# Altium schematic symbol library WR-BHD.SchLib: 220 symbols (part 5 of 5)
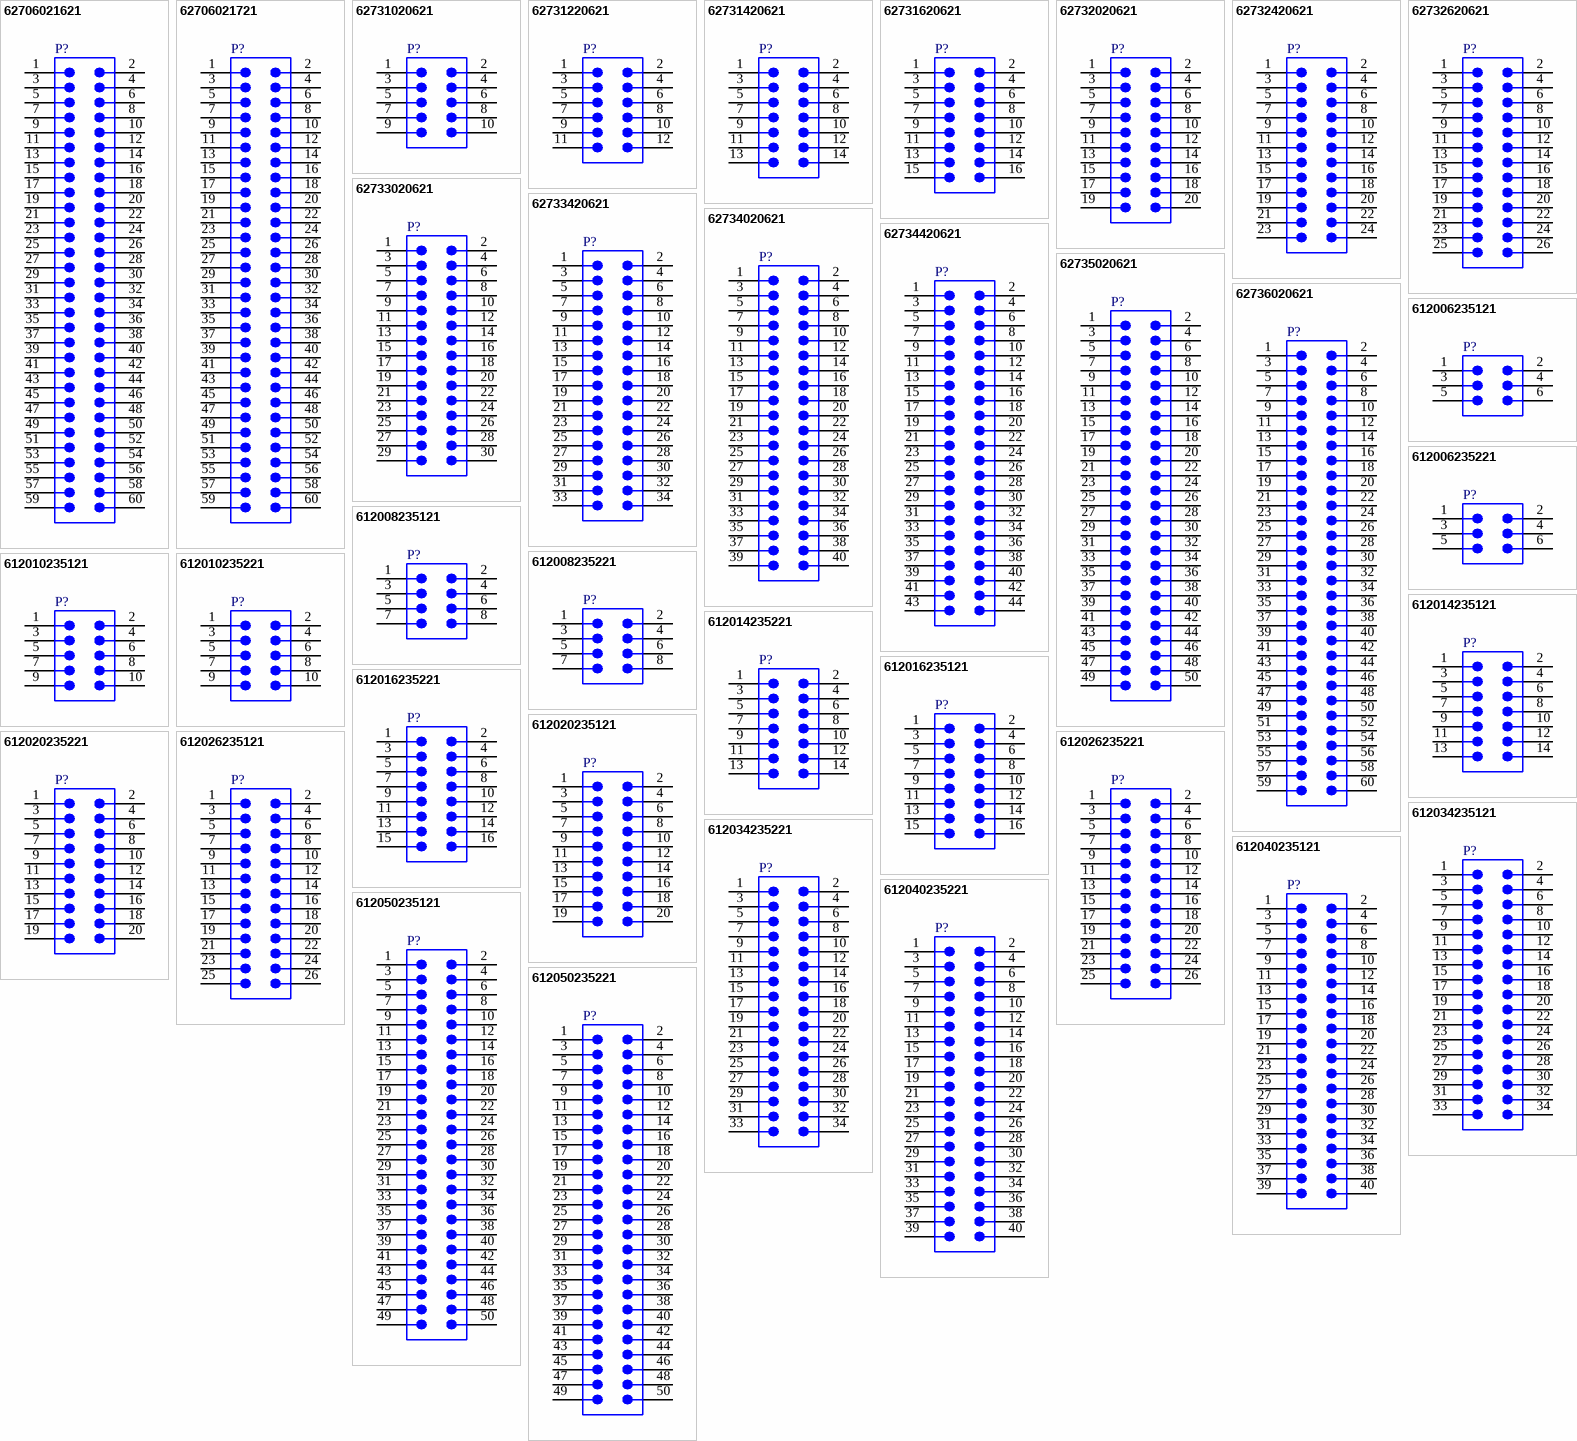
[diagram p9: symbols 62706021621 to 612050235221]

## 62734020621
designator P?  (value not drawn)
WR-BHD Male Box Header, SMT Straight, pitch 1.27 mm, 2 Rows, 40 Pins; Manufacturer: Wurth Elektronik; Contact Resistance: 20 mΩ; Insulation Resistance: 1000 MΩ; Pitch: 1.27 mm; Rated Current: 1 A; Working Voltage: 50 V; Withstanding Voltage: 500 V; Manufacturer Part Number: 62734020621; Category: Wire-to-Board Connector; Connectors.Match Code: WR-BHD; ComponentLink1Description: Website Link; ComponentLink1URL: https://www.we-online.com/redexpert/article/62734020621?ad; ComponentLink2Description: Datasheet Link; ComponentLink2URL: https://www.we-online.com/redexpert/spec/62734020621?ad; Mount: Surface Mount; Min Operating Temperature: -40 °C; Max Operating Temperature: 105 °C; Packaging: Tape and Reel; Length: 31.75 mm; Width: 5 mm; Height: 5.3 mm; Gender: Male; Number of Pins: 40; Number of Rows: 2; Orientation: Straight
footprint 62734020621
pins: 1, 2, 3, 4, 5, 6, 7, 8, 9, 10, 11, 12, 13, 14, 15, 16, 17, 18, 19, 20, 21, 22, 23, 24, 25, 26, 27, 28, 29, 30, 31, 32, 33, 34, 35, 36, 37, 38, 39, 40

## 62734420621
designator P?  (value not drawn)
WR-BHD Male Box Header, SMT Straight, pitch 1.27 mm, 2 Rows, 44 Pins; Manufacturer: Wurth Elektronik; Contact Resistance: 20 mΩ; Insulation Resistance: 1000 MΩ; Pitch: 1.27 mm; Rated Current: 1 A; Working Voltage: 50 V; Withstanding Voltage: 500 V; Manufacturer Part Number: 62734420621; Category: Wire-to-Board Connector; Connectors.Match Code: WR-BHD; ComponentLink1Description: Website Link; ComponentLink1URL: https://www.we-online.com/redexpert/article/62734420621?ad; ComponentLink2Description: Datasheet Link; ComponentLink2URL: https://www.we-online.com/redexpert/spec/62734420621?ad; Mount: Surface Mount; Min Operating Temperature: -40 °C; Max Operating Temperature: 105 °C; Packaging: Tape and Reel; Length: 34.29 mm; Width: 5 mm; Height: 5.3 mm; Gender: Male; Number of Pins: 44; Number of Rows: 2; Orientation: Straight
footprint 62734420621
pins: 1, 2, 3, 4, 5, 6, 7, 8, 9, 10, 11, 12, 13, 14, 15, 16, 17, 18, 19, 20, 21, 22, 23, 24, 25, 26, 27, 28, 29, 30, 31, 32, 33, 34, 35, 36, 37, 38, 39, 40, 41, 42, 43, 44

## 62735020621
designator P?  (value not drawn)
WR-BHD Male Box Header, SMT Straight, pitch 1.27 mm, 2 Rows, 50 Pins; Manufacturer: Wurth Elektronik; Contact Resistance: 20 mΩ; Insulation Resistance: 1000 MΩ; Pitch: 1.27 mm; Rated Current: 1 A; Working Voltage: 50 V; Withstanding Voltage: 500 V; Manufacturer Part Number: 62735020621; Category: Wire-to-Board Connector; Connectors.Match Code: WR-BHD; ComponentLink1Description: Website Link; ComponentLink1URL: https://www.we-online.com/redexpert/article/62735020621?ad; ComponentLink2Description: Datasheet Link; ComponentLink2URL: https://www.we-online.com/redexpert/spec/62735020621?ad; Mount: Surface Mount; Min Operating Temperature: -40 °C; Max Operating Temperature: 105 °C; Packaging: Tape and Reel; Length: 38.1 mm; Width: 5 mm; Height: 5.3 mm; Gender: Male; Number of Pins: 50; Number of Rows: 2; Orientation: Straight
footprint 62735020621
pins: 1, 2, 3, 4, 5, 6, 7, 8, 9, 10, 11, 12, 13, 14, 15, 16, 17, 18, 19, 20, 21, 22, 23, 24, 25, 26, 27, 28, 29, 30, 31, 32, 33, 34, 35, 36, 37, 38, 39, 40, 41, 42, 43, 44, 45, 46, 47, 48, 49, 50

## 62736020621
designator P?  (value not drawn)
WR-BHD Male Box Header, SMT Straight, pitch 1.27 mm, 2 Rows, 60 Pins; Manufacturer: Wurth Elektronik; Contact Resistance: 20 mΩ; Insulation Resistance: 1000 MΩ; Pitch: 1.27 mm; Rated Current: 1 A; Working Voltage: 50 V; Withstanding Voltage: 500 V; Manufacturer Part Number: 62736020621; Category: Wire-to-Board Connector; Connectors.Match Code: WR-BHD; ComponentLink1Description: Website Link; ComponentLink1URL: https://www.we-online.com/redexpert/article/62736020621?ad; ComponentLink2Description: Datasheet Link; ComponentLink2URL: https://www.we-online.com/redexpert/spec/62736020621?ad; Mount: Surface Mount; Min Operating Temperature: -40 °C; Max Operating Temperature: 105 °C; Packaging: Tape and Reel; Length: 44.45 mm; Width: 5 mm; Height: 5.3 mm; Gender: Male; Number of Pins: 60; Number of Rows: 2; Orientation: Straight
footprint 62736020621
pins: 1, 2, 3, 4, 5, 6, 7, 8, 9, 10, 11, 12, 13, 14, 15, 16, 17, 18, 19, 20, 21, 22, 23, 24, 25, 26, 27, 28, 29, 30, 31, 32, 33, 34, 35, 36, 37, 38, 39, 40, 41, 42, 43, 44, 45, 46, 47, 48, 49, 50, 51, 52, 53, 54, 55, 56, 57, 58, 59, 60

## 612006235121
designator P?  (value not drawn)
WR-BHD Male Box Header, THT Straight, pitch 2.54 mm, 2 Rows, 6 Pins; Manufacturer: Wurth Elektronik; Contact Resistance: 20 mΩ; Insulation Resistance: 1000 MΩ; Pitch: 2.54 mm; Rated Current: 3 A; Working Voltage: 250 V; Withstanding Voltage: 500 V; Manufacturer Part Number: 612006235121; Category: Wire-to-Board Connector; Connectors.Match Code: WR-BHD; ComponentLink1Description: Website Link; ComponentLink1URL: https://www.we-online.com/redexpert/article/612006235121?ad; ComponentLink2Description: Datasheet Link; ComponentLink2URL: https://www.we-online.com/redexpert/spec/612006235121?ad; Mount: Through Hole; Min Operating Temperature: -40 °C; Max Operating Temperature: 125 °C; Packaging: Tray; Length: 15.2 mm; Width: 9.05 mm; Height: 9.05 mm; Gender: Male; Number of Pins: 6; Number of Rows: 2; Orientation: Straight
footprint 612006235121
pins: 1, 2, 3, 4, 5, 6

## 612006235221
designator P?  (value not drawn)
WR-BHD Male Box Header, THT Right Angle, pitch 2.54 mm, 2 Rows, 6 Pins; Manufacturer: Wurth Elektronik; Contact Resistance: 20 mΩ; Insulation Resistance: 1000 MΩ; Pitch: 2.54 mm; Rated Current: 3 A; Working Voltage: 250 V; Withstanding Voltage: 500 V; Manufacturer Part Number: 612006235221; Category: Wire-to-Board Connector; Connectors.Match Code: WR-BHD; ComponentLink1Description: Website Link; ComponentLink1URL: https://www.we-online.com/redexpert/article/612006235221?ad; ComponentLink2Description: Datasheet Link; ComponentLink2URL: https://www.we-online.com/redexpert/spec/612006235221?ad; Mount: Through Hole; Min Operating Temperature: -40 °C; Max Operating Temperature: 125 °C; Packaging: Tray; Length: 15.2 mm; Width: 13.19 mm; Height: 9.05 mm; Gender: Male; Number of Pins: 6; Number of Rows: 2; Orientation: Right Angle
footprint 612006235221
pins: 1, 2, 3, 4, 5, 6

## 612008235121
designator P?  (value not drawn)
WR-BHD Male Box Header, THT Straight, pitch 2.54 mm, 2 Rows, 8 Pins; Manufacturer: Wurth Elektronik; Contact Resistance: 20 mΩ; Insulation Resistance: 1000 MΩ; Pitch: 2.54 mm; Rated Current: 3 A; Working Voltage: 250 V; Withstanding Voltage: 500 V; Manufacturer Part Number: 612008235121; Category: Wire-to-Board Connector; Connectors.Match Code: WR-BHD; ComponentLink1Description: Website Link; ComponentLink1URL: https://www.we-online.com/redexpert/article/612008235121?ad; ComponentLink2Description: Datasheet Link; ComponentLink2URL: https://www.we-online.com/redexpert/spec/612008235121?ad; Mount: Through Hole; Min Operating Temperature: -40 °C; Max Operating Temperature: 125 °C; Packaging: Tray; Length: 17.78 mm; Width: 9.05 mm; Height: 9.05 mm; Gender: Male; Number of Pins: 8; Number of Rows: 2; Orientation: Straight
footprint 612008235121
pins: 1, 2, 3, 4, 5, 6, 7, 8

## 612008235221
designator P?  (value not drawn)
WR-BHD Male Box Header, THT Right Angle, pitch 2.54 mm, 2 Rows, 8 Pins; Manufacturer: Wurth Elektronik; Contact Resistance: 20 mΩ; Insulation Resistance: 1000 MΩ; Pitch: 2.54 mm; Rated Current: 3 A; Working Voltage: 250 V; Withstanding Voltage: 500 V; Manufacturer Part Number: 612008235221; Category: Wire-to-Board Connector; Connectors.Match Code: WR-BHD; ComponentLink1Description: Website Link; ComponentLink1URL: https://www.we-online.com/redexpert/article/612008235221?ad; ComponentLink2Description: Datasheet Link; ComponentLink2URL: https://www.we-online.com/redexpert/spec/612008235221?ad; Mount: Through Hole; Min Operating Temperature: -40 °C; Max Operating Temperature: 125 °C; Packaging: Tray; Length: 17.78 mm; Width: 13.19 mm; Height: 9.05 mm; Gender: Male; Number of Pins: 8; Number of Rows: 2; Orientation: Right Angle
footprint 612008235221
pins: 1, 2, 3, 4, 5, 6, 7, 8

## 612010235121
designator P?  (value not drawn)
WR-BHD Male Box Header, THT Straight, pitch 2.54 mm, 2 Rows, 10 Pins; Manufacturer: Wurth Elektronik; Contact Resistance: 20 mΩ; Insulation Resistance: 1000 MΩ; Pitch: 2.54 mm; Rated Current: 3 A; Working Voltage: 250 V; Withstanding Voltage: 500 V; Manufacturer Part Number: 612010235121; Category: Wire-to-Board Connector; Connectors.Match Code: WR-BHD; ComponentLink1Description: Website Link; ComponentLink1URL: https://www.we-online.com/redexpert/article/612010235121?ad; ComponentLink2Description: Datasheet Link; ComponentLink2URL: https://www.we-online.com/redexpert/spec/612010235121?ad; Mount: Through Hole; Min Operating Temperature: -40 °C; Max Operating Temperature: 125 °C; Packaging: Tray; Length: 20.3 mm; Width: 9.05 mm; Height: 9.05 mm; Gender: Male; Number of Pins: 10; Number of Rows: 2; Orientation: Straight
footprint 612010235121
pins: 1, 2, 3, 4, 5, 6, 7, 8, 9, 10

## 612010235221
designator P?  (value not drawn)
WR-BHD Male Box Header, THT Right Angle, pitch 2.54 mm, 2 Rows, 10 Pins; Manufacturer: Wurth Elektronik; Contact Resistance: 20 mΩ; Insulation Resistance: 1000 MΩ; Pitch: 2.54 mm; Rated Current: 3 A; Working Voltage: 250 V; Withstanding Voltage: 500 V; Manufacturer Part Number: 612010235221; Category: Wire-to-Board Connector; Connectors.Match Code: WR-BHD; ComponentLink1Description: Website Link; ComponentLink1URL: https://www.we-online.com/redexpert/article/612010235221?ad; ComponentLink2Description: Datasheet Link; ComponentLink2URL: https://www.we-online.com/redexpert/spec/612010235221?ad; Mount: Through Hole; Min Operating Temperature: -40 °C; Max Operating Temperature: 125 °C; Packaging: Tray; Length: 20.3 mm; Width: 13.19 mm; Height: 9.05 mm; Gender: Male; Number of Pins: 10; Number of Rows: 2; Orientation: Right Angle
footprint 612010235221
pins: 1, 2, 3, 4, 5, 6, 7, 8, 9, 10

## 612014235121
designator P?  (value not drawn)
WR-BHD Male Box Header, THT Straight, pitch 2.54 mm, 2 Rows, 14 Pins; Manufacturer: Wurth Elektronik; Contact Resistance: 20 mΩ; Insulation Resistance: 1000 MΩ; Pitch: 2.54 mm; Rated Current: 3 A; Working Voltage: 250 V; Withstanding Voltage: 500 V; Manufacturer Part Number: 612014235121; Category: Wire-to-Board Connector; Connectors.Match Code: WR-BHD; ComponentLink1Description: Website Link; ComponentLink1URL: https://www.we-online.com/redexpert/article/612014235121?ad; ComponentLink2Description: Datasheet Link; ComponentLink2URL: https://www.we-online.com/redexpert/spec/612014235121?ad; Mount: Through Hole; Min Operating Temperature: -40 °C; Max Operating Temperature: 125 °C; Packaging: Tray; Length: 25.38 mm; Width: 9.05 mm; Height: 9.05 mm; Gender: Male; Number of Pins: 14; Number of Rows: 2; Orientation: Straight
footprint 612014235121
pins: 1, 2, 3, 4, 5, 6, 7, 8, 9, 10, 11, 12, 13, 14

## 612014235221
designator P?  (value not drawn)
WR-BHD Male Box Header, THT Right Angle, pitch 2.54 mm, 2 Rows, 14 Pins; Manufacturer: Wurth Elektronik; Contact Resistance: 20 mΩ; Insulation Resistance: 1000 MΩ; Pitch: 2.54 mm; Rated Current: 3 A; Working Voltage: 250 V; Withstanding Voltage: 500 V; Manufacturer Part Number: 612014235221; Category: Wire-to-Board Connector; Connectors.Match Code: WR-BHD; ComponentLink1Description: Website Link; ComponentLink1URL: https://www.we-online.com/redexpert/article/612014235221?ad; ComponentLink2Description: Datasheet Link; ComponentLink2URL: https://www.we-online.com/redexpert/spec/612014235221?ad; Mount: Through Hole; Min Operating Temperature: -40 °C; Max Operating Temperature: 125 °C; Packaging: Tray; Length: 25.38 mm; Width: 13.19 mm; Height: 9.05 mm; Gender: Male; Number of Pins: 14; Number of Rows: 2; Orientation: Right Angle
footprint 612014235221
pins: 1, 2, 3, 4, 5, 6, 7, 8, 9, 10, 11, 12, 13, 14

## 612016235121
designator P?  (value not drawn)
WR-BHD Male Box Header, THT Straight, pitch 2.54 mm, 2 Rows, 16 Pins; Manufacturer: Wurth Elektronik; Contact Resistance: 20 mΩ; Insulation Resistance: 1000 MΩ; Pitch: 2.54 mm; Rated Current: 3 A; Working Voltage: 250 V; Withstanding Voltage: 500 V; Manufacturer Part Number: 612016235121; Category: Wire-to-Board Connector; Connectors.Match Code: WR-BHD; ComponentLink1Description: Website Link; ComponentLink1URL: https://www.we-online.com/redexpert/article/612016235121?ad; ComponentLink2Description: Datasheet Link; ComponentLink2URL: https://www.we-online.com/redexpert/spec/612016235121?ad; Mount: Through Hole; Min Operating Temperature: -40 °C; Max Operating Temperature: 125 °C; Packaging: Tray; Length: 27.92 mm; Width: 9.05 mm; Height: 9.05 mm; Gender: Male; Number of Pins: 16; Number of Rows: 2; Orientation: Straight
footprint 612016235121
pins: 1, 2, 3, 4, 5, 6, 7, 8, 9, 10, 11, 12, 13, 14, 15, 16

## 612016235221
designator P?  (value not drawn)
WR-BHD Male Box Header, THT Right Angle, pitch 2.54 mm, 2 Rows, 16 Pins; Manufacturer: Wurth Elektronik; Contact Resistance: 20 mΩ; Insulation Resistance: 1000 MΩ; Pitch: 2.54 mm; Rated Current: 3 A; Working Voltage: 250 V; Withstanding Voltage: 500 V; Manufacturer Part Number: 612016235221; Category: Wire-to-Board Connector; Connectors.Match Code: WR-BHD; ComponentLink1Description: Website Link; ComponentLink1URL: https://www.we-online.com/redexpert/article/612016235221?ad; ComponentLink2Description: Datasheet Link; ComponentLink2URL: https://www.we-online.com/redexpert/spec/612016235221?ad; Mount: Through Hole; Min Operating Temperature: -40 °C; Max Operating Temperature: 125 °C; Packaging: Tray; Length: 27.92 mm; Width: 13.19 mm; Height: 9.05 mm; Gender: Male; Number of Pins: 16; Number of Rows: 2; Orientation: Right Angle
footprint 612016235221
pins: 1, 2, 3, 4, 5, 6, 7, 8, 9, 10, 11, 12, 13, 14, 15, 16

## 612020235121
designator P?  (value not drawn)
WR-BHD Male Box Header, THT Straight, pitch 2.54 mm, 2 Rows, 20 Pins; Manufacturer: Wurth Elektronik; Contact Resistance: 20 mΩ; Insulation Resistance: 1000 MΩ; Pitch: 2.54 mm; Rated Current: 3 A; Working Voltage: 250 V; Withstanding Voltage: 500 V; Manufacturer Part Number: 612020235121; Category: Wire-to-Board Connector; Connectors.Match Code: WR-BHD; ComponentLink1Description: Website Link; ComponentLink1URL: https://www.we-online.com/redexpert/article/612020235121?ad; ComponentLink2Description: Datasheet Link; ComponentLink2URL: https://www.we-online.com/redexpert/spec/612020235121?ad; Mount: Through Hole; Min Operating Temperature: -40 °C; Max Operating Temperature: 125 °C; Packaging: Tray; Length: 33 mm; Width: 9.05 mm; Height: 9.05 mm; Gender: Male; Number of Pins: 20; Number of Rows: 2; Orientation: Straight
footprint 612020235121
pins: 1, 2, 3, 4, 5, 6, 7, 8, 9, 10, 11, 12, 13, 14, 15, 16, 17, 18, 19, 20

## 612020235221
designator P?  (value not drawn)
WR-BHD Male Box Header, THT Right Angle, pitch 2.54 mm, 2 Rows, 20 Pins; Manufacturer: Wurth Elektronik; Contact Resistance: 20 mΩ; Insulation Resistance: 1000 MΩ; Pitch: 2.54 mm; Rated Current: 3 A; Working Voltage: 250 V; Withstanding Voltage: 500 V; Manufacturer Part Number: 612020235221; Category: Wire-to-Board Connector; Connectors.Match Code: WR-BHD; ComponentLink1Description: Website Link; ComponentLink1URL: https://www.we-online.com/redexpert/article/612020235221?ad; ComponentLink2Description: Datasheet Link; ComponentLink2URL: https://www.we-online.com/redexpert/spec/612020235221?ad; Mount: Through Hole; Min Operating Temperature: -40 °C; Max Operating Temperature: 125 °C; Packaging: Tray; Length: 33 mm; Width: 13.19 mm; Height: 9.05 mm; Gender: Male; Number of Pins: 20; Number of Rows: 2; Orientation: Right Angle
footprint 612020235221
pins: 1, 2, 3, 4, 5, 6, 7, 8, 9, 10, 11, 12, 13, 14, 15, 16, 17, 18, 19, 20

## 612026235121
designator P?  (value not drawn)
WR-BHD Male Box Header, THT Straight, pitch 2.54 mm, 2 Rows, 26 Pins; Manufacturer: Wurth Elektronik; Contact Resistance: 20 mΩ; Insulation Resistance: 1000 MΩ; Pitch: 2.54 mm; Rated Current: 3 A; Working Voltage: 250 V; Withstanding Voltage: 500 V; Manufacturer Part Number: 612026235121; Category: Wire-to-Board Connector; Connectors.Match Code: WR-BHD; ComponentLink1Description: Website Link; ComponentLink1URL: https://www.we-online.com/redexpert/article/612026235121?ad; ComponentLink2Description: Datasheet Link; ComponentLink2URL: https://www.we-online.com/redexpert/spec/612026235121?ad; Mount: Through Hole; Min Operating Temperature: -40 °C; Max Operating Temperature: 125 °C; Packaging: Tray; Length: 40.62 mm; Width: 9.05 mm; Height: 9.05 mm; Gender: Male; Number of Pins: 26; Number of Rows: 2; Orientation: Straight
footprint 612026235121
pins: 1, 2, 3, 4, 5, 6, 7, 8, 9, 10, 11, 12, 13, 14, 15, 16, 17, 18, 19, 20, 21, 22, 23, 24, 25, 26

## 612026235221
designator P?  (value not drawn)
WR-BHD Male Box Header, THT Right Angle, pitch 2.54 mm, 2 Rows, 26 Pins; Manufacturer: Wurth Elektronik; Contact Resistance: 20 mΩ; Insulation Resistance: 1000 MΩ; Pitch: 2.54 mm; Rated Current: 3 A; Working Voltage: 250 V; Withstanding Voltage: 500 V; Manufacturer Part Number: 612026235221; Category: Wire-to-Board Connector; Connectors.Match Code: WR-BHD; ComponentLink1Description: Website Link; ComponentLink1URL: https://www.we-online.com/redexpert/article/612026235221?ad; ComponentLink2Description: Datasheet Link; ComponentLink2URL: https://www.we-online.com/redexpert/spec/612026235221?ad; Mount: Through Hole; Min Operating Temperature: -40 °C; Max Operating Temperature: 125 °C; Packaging: Tray; Length: 40.62 mm; Width: 13.19 mm; Height: 9.05 mm; Gender: Male; Number of Pins: 26; Number of Rows: 2; Orientation: Right Angle
footprint 612026235221
pins: 1, 2, 3, 4, 5, 6, 7, 8, 9, 10, 11, 12, 13, 14, 15, 16, 17, 18, 19, 20, 21, 22, 23, 24, 25, 26

## 612034235121
designator P?  (value not drawn)
WR-BHD Male Box Header, THT Straight, pitch 2.54 mm, 2 Rows, 34 Pins; Manufacturer: Wurth Elektronik; Contact Resistance: 20 mΩ; Insulation Resistance: 1000 MΩ; Pitch: 2.54 mm; Rated Current: 3 A; Working Voltage: 250 V; Withstanding Voltage: 500 V; Manufacturer Part Number: 612034235121; Category: Wire-to-Board Connector; Connectors.Match Code: WR-BHD; ComponentLink1Description: Website Link; ComponentLink1URL: https://www.we-online.com/redexpert/article/612034235121?ad; ComponentLink2Description: Datasheet Link; ComponentLink2URL: https://www.we-online.com/redexpert/spec/612034235121?ad; Mount: Through Hole; Min Operating Temperature: -40 °C; Max Operating Temperature: 125 °C; Packaging: Tray; Length: 50.8 mm; Width: 9.05 mm; Height: 9.05 mm; Gender: Male; Number of Pins: 34; Number of Rows: 2; Orientation: Straight
footprint 612034235121
pins: 1, 2, 3, 4, 5, 6, 7, 8, 9, 10, 11, 12, 13, 14, 15, 16, 17, 18, 19, 20, 21, 22, 23, 24, 25, 26, 27, 28, 29, 30, 31, 32, 33, 34

## 612034235221
designator P?  (value not drawn)
WR-BHD Male Box Header, THT Right Angle, pitch 2.54 mm, 2 Rows, 34 Pins; Manufacturer: Wurth Elektronik; Contact Resistance: 20 mΩ; Insulation Resistance: 1000 MΩ; Pitch: 2.54 mm; Rated Current: 3 A; Working Voltage: 250 V; Withstanding Voltage: 500 V; Manufacturer Part Number: 612034235221; Category: Wire-to-Board Connector; Connectors.Match Code: WR-BHD; ComponentLink1Description: Website Link; ComponentLink1URL: https://www.we-online.com/redexpert/article/612034235221?ad; ComponentLink2Description: Datasheet Link; ComponentLink2URL: https://www.we-online.com/redexpert/spec/612034235221?ad; Mount: Through Hole; Min Operating Temperature: -40 °C; Max Operating Temperature: 125 °C; Packaging: Tray; Length: 50.8 mm; Width: 13.19 mm; Height: 9.05 mm; Gender: Male; Number of Pins: 34; Number of Rows: 2; Orientation: Right Angle
footprint 612034235221
pins: 1, 2, 3, 4, 5, 6, 7, 8, 9, 10, 11, 12, 13, 14, 15, 16, 17, 18, 19, 20, 21, 22, 23, 24, 25, 26, 27, 28, 29, 30, 31, 32, 33, 34

## 612040235121
designator P?  (value not drawn)
WR-BHD Male Box Header, THT Straight, pitch 2.54 mm, 2 Rows, 40 Pins; Manufacturer: Wurth Elektronik; Contact Resistance: 20 mΩ; Insulation Resistance: 1000 MΩ; Pitch: 2.54 mm; Rated Current: 3 A; Working Voltage: 250 V; Withstanding Voltage: 500 V; Manufacturer Part Number: 612040235121; Category: Wire-to-Board Connector; Connectors.Match Code: WR-BHD; ComponentLink1Description: Website Link; ComponentLink1URL: https://www.we-online.com/redexpert/article/612040235121?ad; ComponentLink2Description: Datasheet Link; ComponentLink2URL: https://www.we-online.com/redexpert/spec/612040235121?ad; Mount: Through Hole; Min Operating Temperature: -40 °C; Max Operating Temperature: 125 °C; Packaging: Tray; Length: 58.4 mm; Width: 9.05 mm; Height: 9.05 mm; Gender: Male; Number of Pins: 40; Number of Rows: 2; Orientation: Straight
footprint 612040235121
pins: 1, 2, 3, 4, 5, 6, 7, 8, 9, 10, 11, 12, 13, 14, 15, 16, 17, 18, 19, 20, 21, 22, 23, 24, 25, 26, 27, 28, 29, 30, 31, 32, 33, 34, 35, 36, 37, 38, 39, 40

## 612040235221
designator P?  (value not drawn)
WR-BHD Male Box Header, THT Right Angle, pitch 2.54 mm, 2 Rows, 40 Pins; Manufacturer: Wurth Elektronik; Contact Resistance: 20 mΩ; Insulation Resistance: 1000 MΩ; Pitch: 2.54 mm; Rated Current: 3 A; Working Voltage: 250 V; Withstanding Voltage: 500 V; Manufacturer Part Number: 612040235221; Category: Wire-to-Board Connector; Connectors.Match Code: WR-BHD; ComponentLink1Description: Website Link; ComponentLink1URL: https://www.we-online.com/redexpert/article/612040235221?ad; ComponentLink2Description: Datasheet Link; ComponentLink2URL: https://www.we-online.com/redexpert/spec/612040235221?ad; Mount: Through Hole; Min Operating Temperature: -40 °C; Max Operating Temperature: 125 °C; Packaging: Tray; Length: 58.4 mm; Width: 13.19 mm; Height: 9.05 mm; Gender: Male; Number of Pins: 40; Number of Rows: 2; Orientation: Right Angle
footprint 612040235221
pins: 1, 2, 3, 4, 5, 6, 7, 8, 9, 10, 11, 12, 13, 14, 15, 16, 17, 18, 19, 20, 21, 22, 23, 24, 25, 26, 27, 28, 29, 30, 31, 32, 33, 34, 35, 36, 37, 38, 39, 40

## 612050235121
designator P?  (value not drawn)
WR-BHD Male Box Header, THT Straight, pitch 2.54 mm, 2 Rows, 50 Pins; Manufacturer: Wurth Elektronik; Contact Resistance: 20 mΩ; Insulation Resistance: 1000 MΩ; Pitch: 2.54 mm; Rated Current: 3 A; Working Voltage: 250 V; Withstanding Voltage: 500 V; Manufacturer Part Number: 612050235121; Category: Wire-to-Board Connector; Connectors.Match Code: WR-BHD; ComponentLink1Description: Website Link; ComponentLink1URL: https://www.we-online.com/redexpert/article/612050235121?ad; ComponentLink2Description: Datasheet Link; ComponentLink2URL: https://www.we-online.com/redexpert/spec/612050235121?ad; Mount: Through Hole; Min Operating Temperature: -40 °C; Max Operating Temperature: 125 °C; Packaging: Tray; Length: 71.1 mm; Width: 9.05 mm; Height: 9.05 mm; Gender: Male; Number of Pins: 50; Number of Rows: 2; Orientation: Straight
footprint 612050235121
pins: 1, 2, 3, 4, 5, 6, 7, 8, 9, 10, 11, 12, 13, 14, 15, 16, 17, 18, 19, 20, 21, 22, 23, 24, 25, 26, 27, 28, 29, 30, 31, 32, 33, 34, 35, 36, 37, 38, 39, 40, 41, 42, 43, 44, 45, 46, 47, 48, 49, 50

## 612050235221
designator P?  (value not drawn)
WR-BHD Male Box Header, THT Right Angle, pitch 2.54 mm, 2 Rows, 50 Pins; Manufacturer: Wurth Elektronik; Contact Resistance: 20 mΩ; Insulation Resistance: 1000 MΩ; Pitch: 2.54 mm; Rated Current: 3 A; Working Voltage: 250 V; Withstanding Voltage: 500 V; Manufacturer Part Number: 612050235221; Category: Wire-to-Board Connector; Connectors.Match Code: WR-BHD; ComponentLink1Description: Website Link; ComponentLink1URL: https://www.we-online.com/redexpert/article/612050235221?ad; ComponentLink2Description: Datasheet Link; ComponentLink2URL: https://www.we-online.com/redexpert/spec/612050235221?ad; Mount: Through Hole; Min Operating Temperature: -40 °C; Max Operating Temperature: 125 °C; Packaging: Tray; Length: 71.1 mm; Width: 13.19 mm; Height: 9.05 mm; Gender: Male; Number of Pins: 50; Number of Rows: 2; Orientation: Right Angle
footprint 612050235221
pins: 1, 2, 3, 4, 5, 6, 7, 8, 9, 10, 11, 12, 13, 14, 15, 16, 17, 18, 19, 20, 21, 22, 23, 24, 25, 26, 27, 28, 29, 30, 31, 32, 33, 34, 35, 36, 37, 38, 39, 40, 41, 42, 43, 44, 45, 46, 47, 48, 49, 50